# Altium footprint library MP5087GG-Z.PcbLib: 1 footprints
Each footprint in its own frame and in the unit in brackets; x right, y up, seen from the top. Pads: shape width x height; smd on the part's side, far side on the other; paste and mask are expansions set on the pad; w line width, h text height; cw(c..) or ccw(c..) is an arc to the next point about the centre after c.
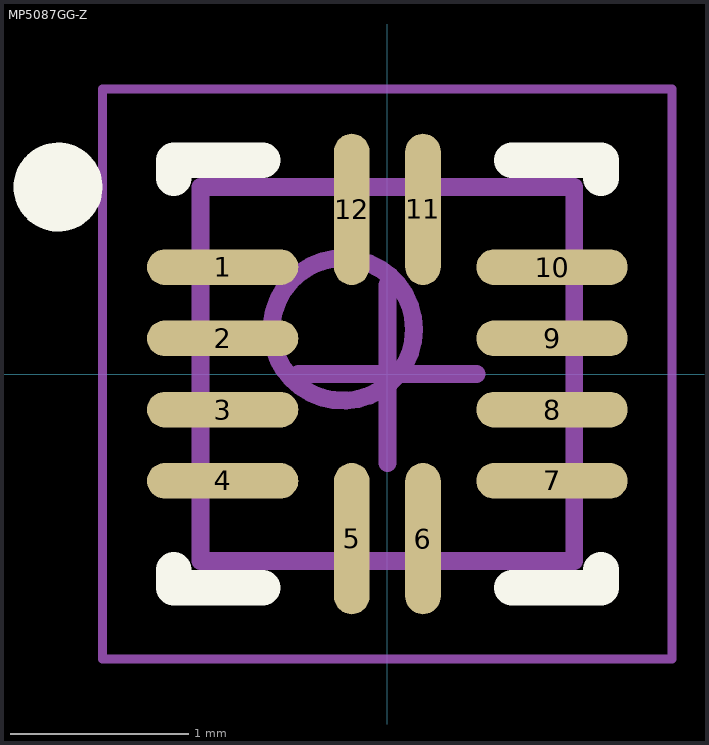
[diagram p0: the footprint, top view; thin cyan lines are the x and y axes]

## MP5087GG-Z [mm] "Power Switch/Driver 1:1 P-Channel 7A"
height 1
pads (12):
  oval 0.85x0.2 smd: 1(-0.925,0.6) 2(-0.925,0.2) 3(-0.925,-0.2) 4(-0.925,-0.6) 7(0.925,-0.6) 8(0.925,-0.2) 9(0.925,0.2) 10(0.925,0.6)
  oval 0.2x0.85 smd: 5(-0.2,-0.925) 6(0.2,-0.925) 11(0.2,0.925) 12(-0.2,0.925)
Top Overlay:
  circle w0.25: c-1.85,1.05 r0.125
  lines w0.2: -1.2,-1.1 -1.2,-1.2 -0.7,-1.2 ; -1.2,1.1 -1.2,1.2 -0.7,1.2 ; 0.7,-1.2 1.2,-1.2 1.2,-1.1 ; 0.7,1.2 1.2,1.2 1.2,1.1
Mechanical 13:
  circle w0.1: c-0.25,0.25 r0.4
  lines w0.1: -1.05,-1.05 -1.05,1.05 1.05,1.05 1.05,-1.05 -1.05,-1.05
Mechanical 15:
  lines w0.05: -1.6,-1.6 -1.6,1.6 1.6,1.6 1.6,-1.6 -1.6,-1.6
  lines w0.1: -0.5,0 0.5,0 ; 0,-0.5 0,0.5
3D body "MP5087GG.step": height 1, standoff 0, extent -1.1,-1.1 1.1,1.1